# Altium footprint library FUSE Holder.PcbLib: 1 footprints
Each footprint in its own frame and in the unit in brackets; x right, y up, seen from the top. Pads: shape width x height; smd on the part's side, far side on the other; paste and mask are expansions set on the pad; w line width, h text height; cw(c..) or ccw(c..) is an arc to the next point about the centre after c.
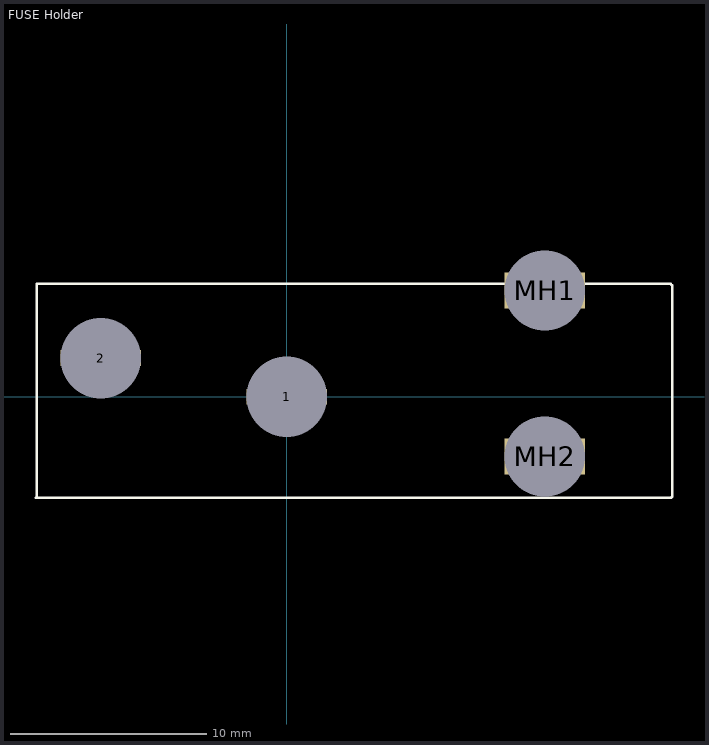
[diagram p0: the footprint, top view; thin cyan lines are the x and y axes]

## FUSE Holder [mm] "Keystone"
pads (4):
  rect 4.11x0.81 hole 4.11 square: 1(0,0) 2(-9.52,1.98)
  rect 4.11x1.83 hole 4.11 square: MH1(13.18,5.43) MH2(13.18,-3.05)
Top Overlay:
  lines w0.13: -12.827,-5.156 -12.776,-5.105 -12.776,5.766 19.609,5.766 19.685,5.69 19.685,-5.105 19.634,-5.156 -12.827,-5.156
3D body "keystone-PN3558.STEP": height 26.46, standoff -4.52, extent -12.827,-5.207 19.647,5.817